# EAGLE library part SBH41-NBPB-D14-SP (library con-sullins)
HEADER - Vertical, Shrouded
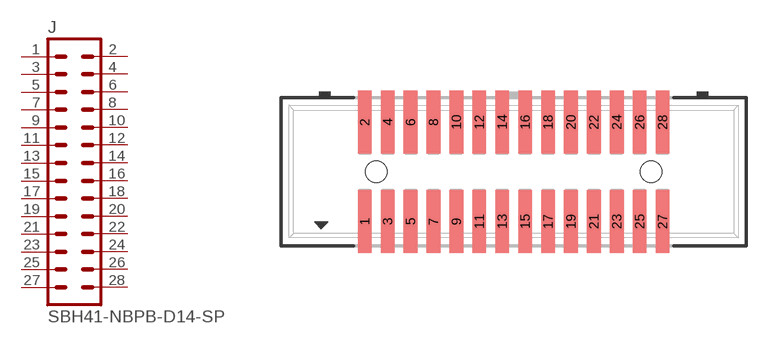
[diagram p51: symbol with the pads of SBH41-NBPB-D14-SP; footprint SBH41-NBPB-D14-SP]

Designator prefix J

## SBH41-NBPB-D14-SP  [SBH41-NBPB-D14-SP]
1  1  pas
2  2  pas
3  3  pas
4  4  pas
5  5  pas
6  6  pas
7  7  pas
8  8  pas
9  9  pas
10  10  pas
11  11  pas
12  12  pas
13  13  pas
14  14  pas
15  15  pas
16  16  pas
17  17  pas
18  18  pas
19  19  pas
20  20  pas
21  21  pas
22  22  pas
23  23  pas
24  24  pas
25  25  pas
26  26  pas
27  27  pas
28  28  pas

## Footprint SBH41-NBPB-D14-SP (pad centres in mm)
CONNECTOR HEADER 0.05" pitch
smd 0.762 x 3.505: 1 -8.255,-2.756; 2 -8.255,2.756; 3 -6.985,-2.756; 4 -6.985,2.756; 5 -5.715,-2.756; 6 -5.715,2.756; 7 -4.445,-2.756; 8 -4.445,2.756; 9 -3.175,-2.756; 10 -3.175,2.756; 11 -1.905,-2.756; 12 -1.905,2.756; 13 -0.635,-2.756; 14 -0.635,2.756; 15 0.635,-2.756; 16 0.635,2.756; 17 1.905,-2.756; 18 1.905,2.756; 19 3.175,-2.756; 20 3.175,2.756; 21 4.445,-2.756; 22 4.445,2.756; 23 5.715,-2.756; 24 5.715,2.756; 25 6.985,-2.756; 26 6.985,2.756; 27 8.255,-2.756; 28 8.255,2.756
hole 1.194 at -7.62,0
hole 1.194 at 7.62,0